# Altium schematic symbol library 电阻.SchLib: 3 symbols
Pins are listed as number, name and electrical type; pins without a type are passive.

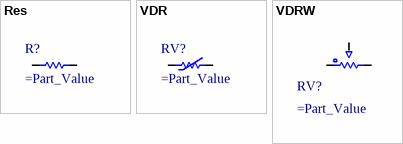
[diagram p0: symbols Res to VDRW]

## Res
designator R?
pins: 1, 2
1 alternate drawing of the same symbol

## VDR
designator RV?
Voltage Dependent Resistor
pins: 1, 2

## VDRW
designator RV?
pins: 1, 2, 3